# Altium integrated library lib_interfet.IntLib: 1 symbol
Pins are listed as number, name and electrical type; pins without a type are passive.

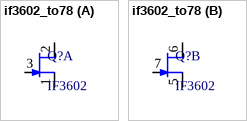
[diagram p0: symbol if3602_to78]

## if3602_to78
designator Q?, comment IF3602
Dual Matched N-Channel JFET; ComponentLink1Description: Datasheet; ComponentLink1URL: https://www.mouser.se/datasheet/2/676/jfet-if3602-interfet.r00-1649123.pdf
footprint IF3602_TO78
part A pins: 1 S1, 2 D1, 3 G1
part B pins: 5 S2, 6 D2, 7 G2